# Altium footprint library Robsense_PCBLib.PcbLib: 82 footprints (part 2 of 6)
Each footprint in its own frame and in the unit in brackets; x right, y up, seen from the top. Pads: shape width x height; smd on the part's side, far side on the other; paste and mask are expansions set on the pad; w line width, h text height; cw(c..) or ccw(c..) is an arc to the next point about the centre after c.
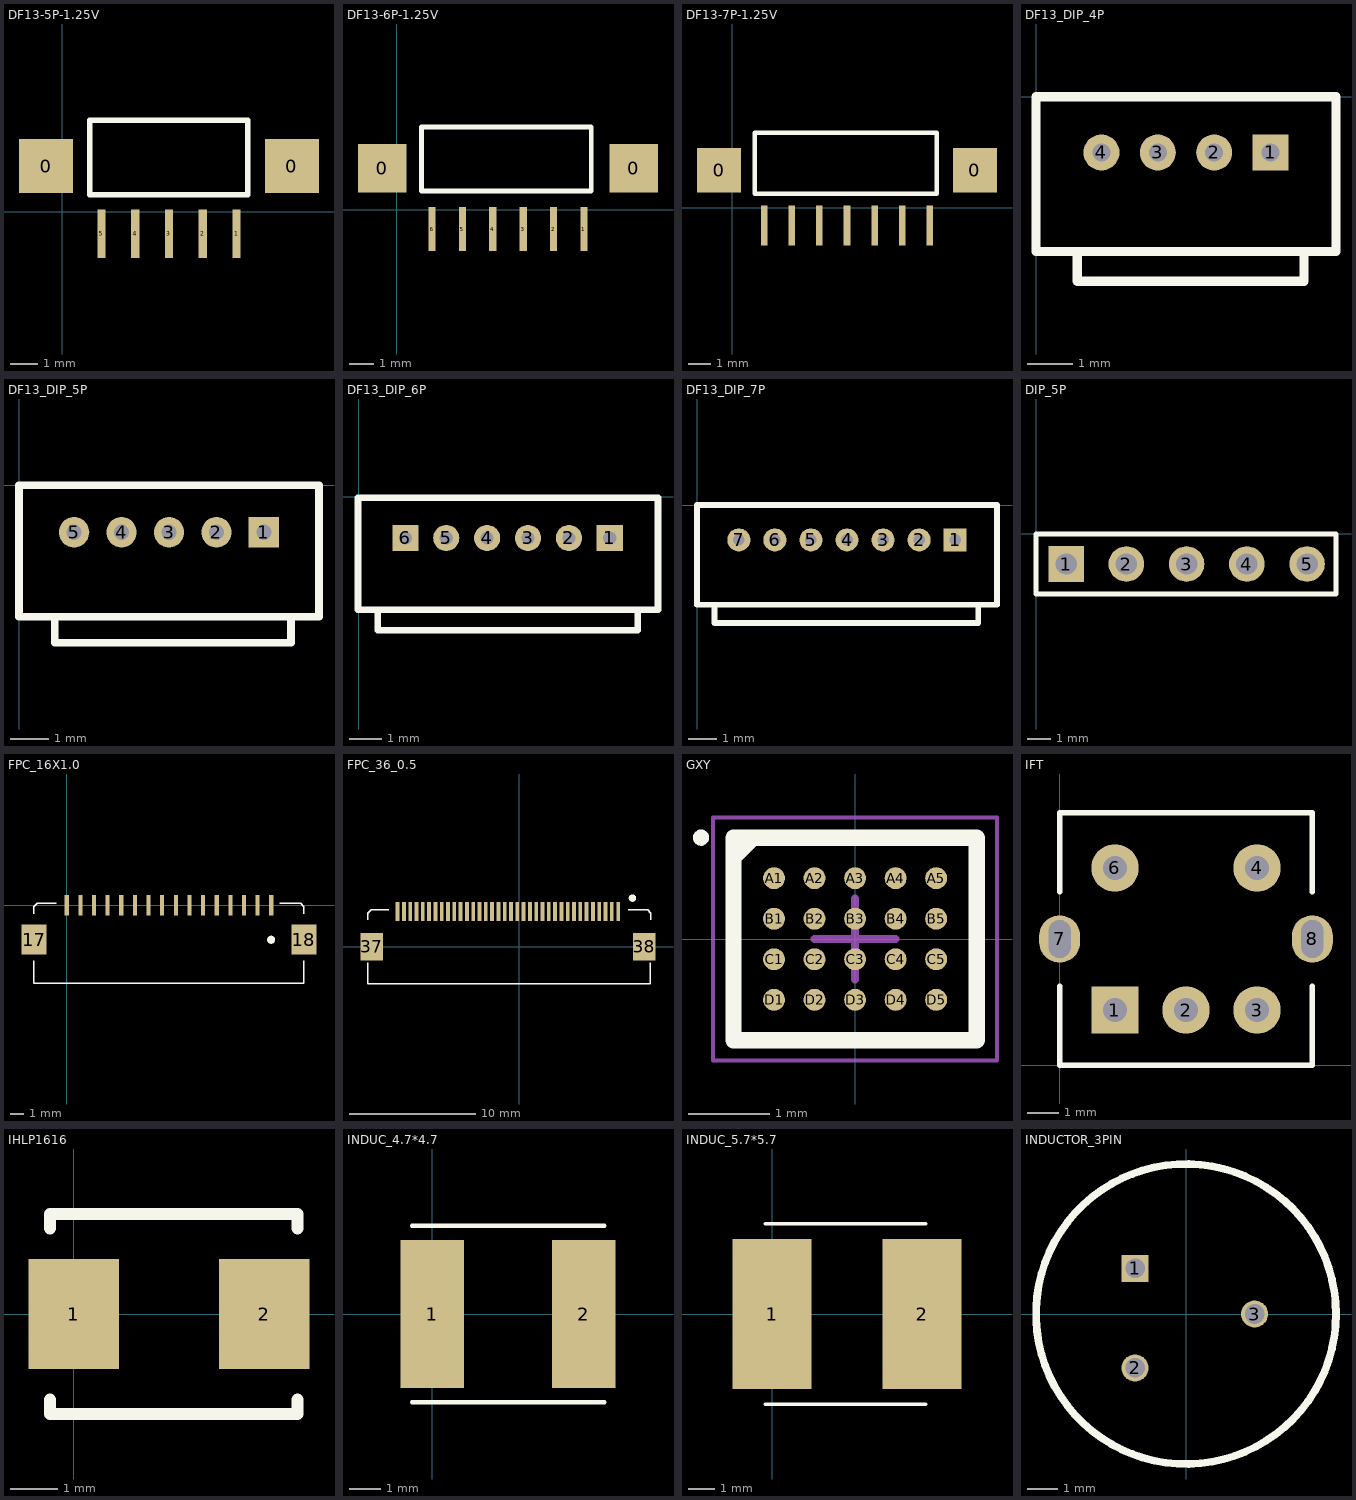
[diagram p1: the footprints below, top view; thin cyan lines are the x and y axes]

## DF13-5P-1.25V [mm]
pads (7):
  rect 2x2 smd mask+0.08: 0(-0.6,1.7) 0(8.5,1.7)
  rect 0.3x1.8 smd mask+0.08: 1(6.45,-0.8) 2(5.2,-0.8) 3(3.95,-0.8) 4(2.7,-0.8) 5(1.45,-0.8)
Top Overlay:
  lines w0.2: 1.016,0.635 6.858,0.635 6.858,3.4 1.016,3.4 1.016,0.635

## DF13-6P-1.25V [mm]
pads (8):
  rect 2x2 smd mask+0.08: 0(-0.6,1.7) 0(9.75,1.7)
  rect 0.3x1.8 smd mask+0.08: 1(7.7,-0.8) 2(6.45,-0.8) 3(5.2,-0.8) 4(3.95,-0.8) 5(2.7,-0.8) 6(1.45,-0.8)
Top Overlay:
  lines w0.2: 1.016,0.762 1.016,3.4 8.001,3.4 8.001,0.762 1.016,0.762

## DF13-7P-1.25V [mm]
pads (9):
  rect 2x2 smd mask+0.08: 0(-0.6,1.7) 0(11,1.7)
  rect 0.3x1.8 smd mask+0.08: 1(8.95,-0.8) 2(7.7,-0.8) 3(6.45,-0.8) 4(5.2,-0.8) 5(3.95,-0.8) 6(2.7,-0.8) 7(1.45,-0.8)
Top Overlay:
  lines w0.2: 1.016,0.635 9.271,0.635 9.271,3.4 1.016,3.4 1.016,0.635

## DF13_DIP_4P [mm]
pads (4):
  rect 0.8x0.8 hole 0.4: 1(5.2,-1.235)
  round 0.8 hole 0.4: 2(3.95,-1.235) 3(2.7,-1.235) 4(1.45,-1.235)
Top Overlay:
  lines w0.2: 0.914,-3.48 0.914,-4.089 5.944,-4.089 5.944,-3.48 ; 0,-3.429 6.65,-3.429 6.65,0 0,0 0,-3.429

## DF13_DIP_5P [mm]
pads (5):
  rect 0.8x0.8 hole 0.4: 1(6.45,-1.235)
  round 0.8 hole 0.4: 2(5.2,-1.235) 3(3.95,-1.235) 4(2.7,-1.235) 5(1.45,-1.235)
Top Overlay:
  lines w0.2: 0.94,-3.454 0.94,-4.14 7.163,-4.14 7.163,-3.454 ; 0,-3.454 7.899,-3.454 7.899,0 0,0 0,-3.454

## DF13_DIP_6P [mm]
pads (6):
  rect 0.8x0.8 hole 0.4: 1(7.675,-1.261) 6(1.425,-1.261)
  round 0.8 hole 0.4: 2(6.425,-1.261) 3(5.175,-1.261) 4(3.925,-1.261) 5(2.675,-1.261)
Top Overlay:
  lines w0.2: 0.584,-3.454 0.584,-4.089 8.534,-4.089 8.534,-3.454 ; -0.025,-3.454 9.15,-3.454 9.15,-0.025 -0.025,-0.025 -0.025,-3.454

## DF13_DIP_7P [mm]
pads (7):
  rect 0.8x0.8 hole 0.4: 1(8.95,-1.21)
  round 0.8 hole 0.4: 2(7.7,-1.21) 3(6.45,-1.21) 4(5.2,-1.21) 5(3.95,-1.21) 6(2.7,-1.21) 7(1.45,-1.21)
Top Overlay:
  lines w0.2: 0.61,-3.454 0.61,-4.089 9.754,-4.089 9.754,-3.454 ; 10.4,-0.025 10.4,-3.454 0,-3.454 0,0 10.4,0

## DIP_5P [mm]
pads (5):
  rect 1.5x1.5 hole 0.9: 1(1.27,-1.27)
  round 1.5 hole 0.9: 2(3.81,-1.27) 3(6.35,-1.27) 4(8.89,-1.27) 5(11.43,-1.27)
Top Overlay:
  lines w0.2: 0,-2.54 12.649,-2.54 12.649,0 0,0 0,-2.54

## FPC_16X1.0 [mm]
pads (19):
  rect 0.3x1.5 smd mask+0.08: 1(15,0) 2(14,0) 3(13,0) 4(12,0) 5(11,0) 6(10,0) 7(9,0) 8(8,0) 9(7,0) 10(6,0) 11(5,0) 12(4,0) 13(3,0) 14(2,0) 15(1,0) 16(0,0)
  rect 1.8x2.2 smd mask+0.08: 17(-2.4,-2.525) 18(17.4,-2.525)
  round 0.6 on Top Overlay: 19(14.986,-2.54)
Top Overlay:
  lines w0.1: -2.413,-4.064 -2.413,-5.715 17.399,-5.715 17.399,-4.064 ; -2.413,-0.635 -2.413,-0.127 -2.159,0.127 -0.762,0.127 ; 15.621,0.127 17.145,0.127 17.399,-0.127 17.399,-0.635

## FPC_36_0.5 [mm]
pads (39):
  rect 0.3x1.5 smd mask+0.08: 1(7.83,2.794) 2(7.33,2.794) 3(6.83,2.794) 4(6.33,2.794) 5(5.83,2.794) 6(5.33,2.794) 7(4.83,2.794) 8(4.33,2.794) 9(3.83,2.794) 10(3.33,2.794) 11(2.83,2.794) 12(2.33,2.794) 13(1.83,2.794) 14(1.33,2.794) 15(0.83,2.794) 16(0.33,2.794) 17(-0.17,2.794) 18(-0.67,2.794) 19(-1.17,2.794) 20(-1.67,2.794) 21(-2.17,2.794) 22(-2.67,2.794) 23(-3.17,2.794) 24(-3.67,2.794) 25(-4.17,2.794) 26(-4.67,2.794) 27(-5.17,2.794) 28(-5.67,2.794) 29(-6.17,2.794) 30(-6.67,2.794) 31(-7.17,2.794) 32(-7.67,2.794) 33(-8.17,2.794) 34(-8.67,2.794) 35(-9.17,2.794) 36(-9.67,2.794)
  round 0.6 on Top Overlay: 19(8.966,3.861)
  rect 1.8x2.2 smd mask+0.08: 37(-11.709,0) 38(9.892,-0.006)
Top Overlay:
  lines w0.1: -12.023,-2.921 10.363,-2.921 10.363,-1.27 ; -12.023,-2.915 -12.023,-1.264 ; -12.023,2.165 -12.023,2.673 -11.769,2.927 -10.372,2.927 ; 8.636,2.922 10.16,2.922 10.414,2.668 10.414,2.16

## GXY [mm]
height 0.61
pads (20):
  round 0.27 smd mask+0.08: A1(-1,0.75) A2(-0.5,0.75) A3(0,0.75) A4(0.5,0.75) A5(1,0.75) B1(-1,0.25) B2(-0.5,0.25) B3(0,0.25) B4(0.5,0.25) B5(1,0.25) C1(-1,-0.25) C2(-0.5,-0.25) C3(0,-0.25) C4(0.5,-0.25) C5(1,-0.25) D1(-1,-0.75) D2(-0.5,-0.75) D3(0,-0.75) D4(0.5,-0.75) D5(1,-0.75)
Top Overlay:
  circle w0.1: c-1.9,1.25 r0.05
  region: -1.257,1.25 -1.5,1.007 -1.5,1.25
  lines w0.2: -1.5,1.007 -1.257,1.25 ; -1.5,-1.25 1.5,-1.25 1.5,1.25 -1.5,1.25 -1.5,-1.25
Mechanical 13:
  lines w0.1: -1.5,-1.25 1.5,-1.25 1.5,1.25 -1.5,1.25 -1.5,-1.25
Mechanical 15:
  lines w0.05: -1.75,-1.5 1.75,-1.5 1.75,1.5 -1.75,1.5 -1.75,-1.5
  lines w0.1: -0.5,0 0.5,0 ; 0,-0.5 0,0.5
3D body: height 0.61, standoff 0.2, extent -1.5,-1.25 1.5,1.25

## IFT [mm]
pads (7):
  rect 1.5x1.5 hole 0.75: 1(1.75,1.75)
  round 1.5 hole 0.75: 2(4,1.75) 3(6.25,1.75) 4(6.25,6.25) 6(1.75,6.25)
  oval 1.3x1.5 hole 0.7 slot 1.2 at 90 deg: 7(0,4) 8(8,4)
Top Overlay:
  lines w0.178: 0,2.5 0,0 8,0 8,2.5 ; 0,5.5 0,8 8,8 8,5.5

## IHLP1616 [mm]
pads (2):
  rect 1.9x2.3 smd mask+0.08: 1(0,0) 2(4,0)
Top Overlay:
  lines w0.254: -0.5,-1.8 -0.5,-2.1 4.7,-2.1 4.7,-1.8 ; -0.5,1.8 -0.5,2.1 4.7,2.1 4.7,1.8

## INDUC_4.7*4.7 [mm]
pads (2):
  rect 2x4.7 smd mask+0.08: 1(0,0) 2(4.8,0)
Top Overlay:
  lines w0.13: -0.635,-2.794 5.461,-2.794 ; -0.635,2.794 5.461,2.794

## INDUC_5.7*5.7 [mm]
pads (2):
  rect 3x5.7 smd mask+0.08: 1(0,0) 2(5.7,0)
Top Overlay:
  lines w0.13: -0.254,-3.429 5.842,-3.429 ; -0.254,3.429 5.842,3.429

## INDUCTOR_3PIN [mm]
pads (3):
  rect 0.9x0.9 hole 0.65: 1(-1.7,1.524)
  round 0.9 hole 0.65: 2(-1.7,-1.8) 3(2.286,0)
Top Overlay:
  circle w0.254: c0,0 r5